# Altium footprint library PcbLibPadometer.PcbLib: 18 footprints (part 1 of 2)
Each footprint in its own frame and in the unit in brackets; x right, y up, seen from the top. Pads: shape width x height; smd on the part's side, far side on the other; paste and mask are expansions set on the pad; w line width, h text height; cw(c..) or ccw(c..) is an arc to the next point about the centre after c.
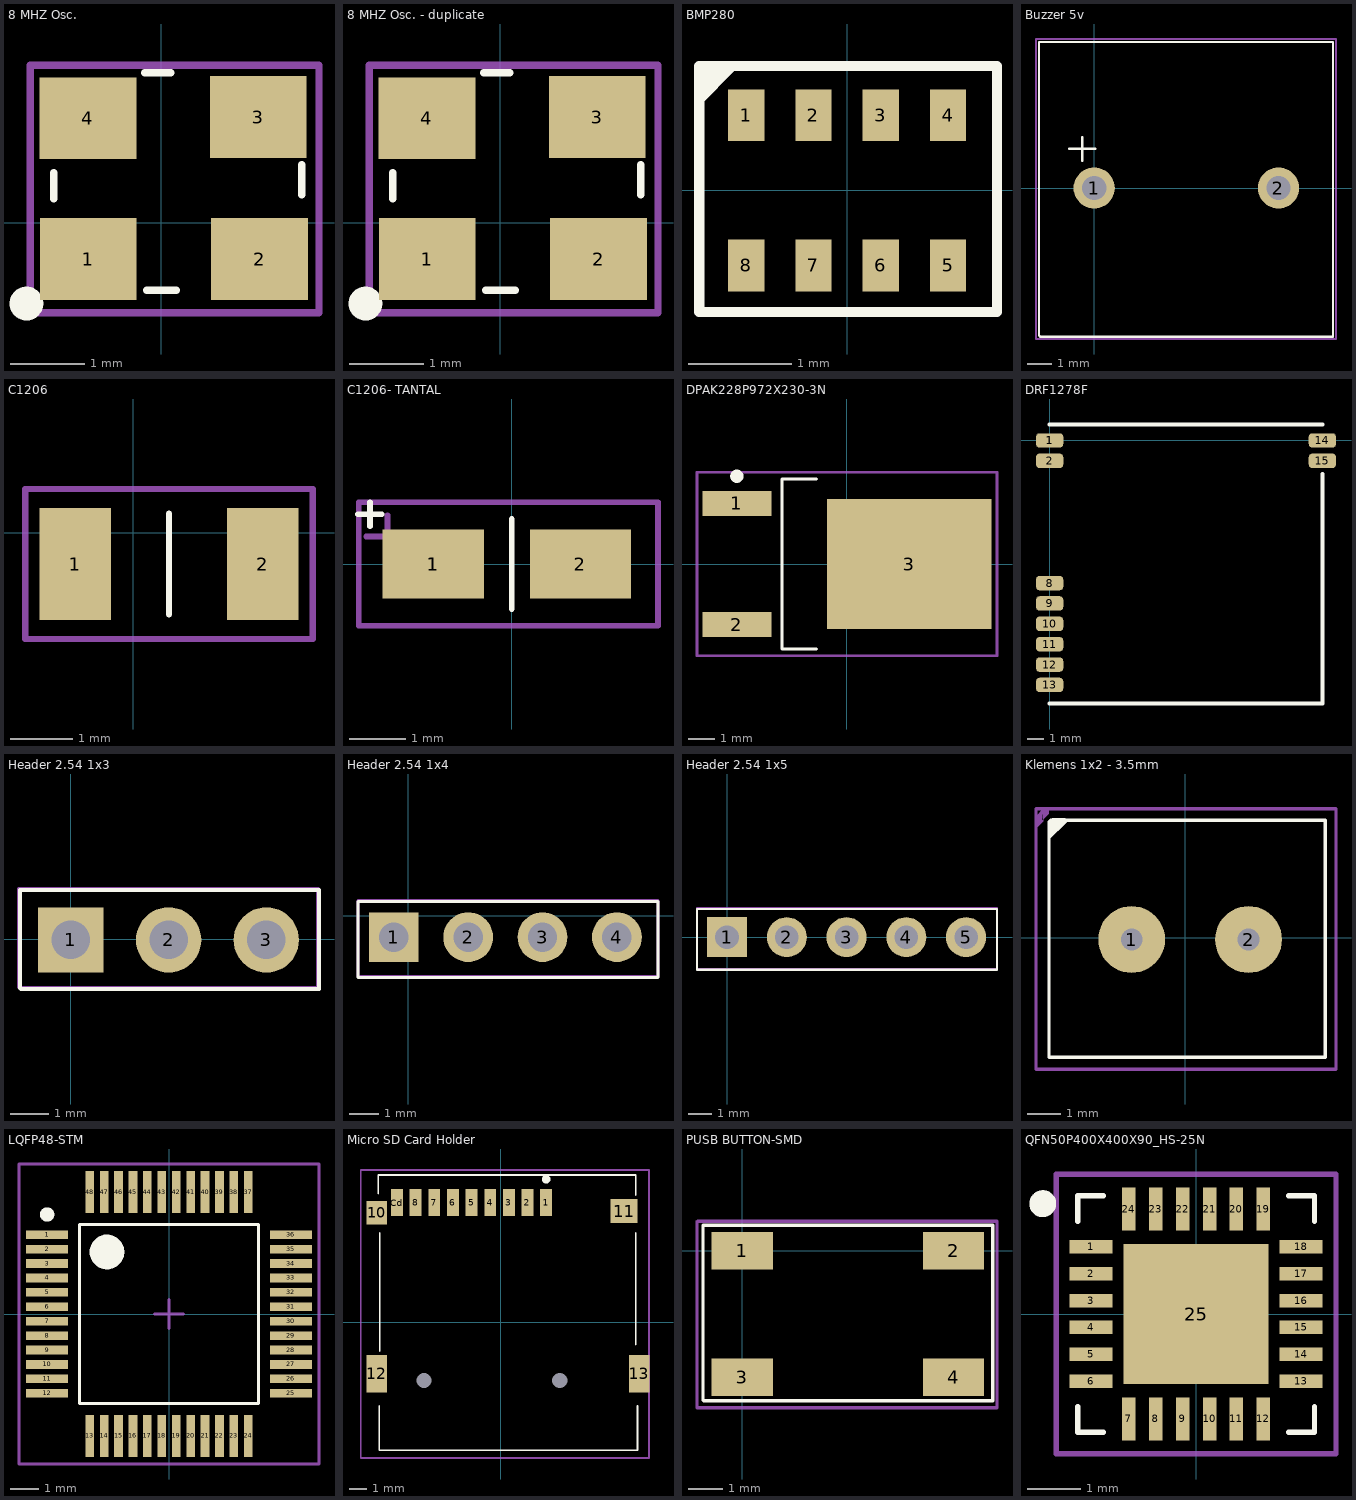
[diagram p0: the footprints below, top view; thin cyan lines are the x and y axes]

## 8 MHZ Osc. [mm]
pads (4):
  rect 1.3x1.1 smd mask+0.05: 1(-0.981,-0.49) 2(1.319,-0.49) 3(1.303,1.417) 4(-0.986,1.401)
Top Overlay:
  circle w0.254: c-1.812,-1.089 r0.1
  lines w0.1: -1.445,0.318 -1.445,0.672 ; -0.224,2.01 0.13,2.01 ; -0.199,-0.911 0.201,-0.911 ; 1.884,0.376 1.884,0.776
Mechanical 3:
  circle w0.254: c-1.216,-0.524 r0.1
  lines w0.1: -1.761,-1.211 -1.761,2.113 2.118,2.113 2.118,-1.211 -1.761,-1.211
3D body "ASE3.STEP": height 1.22, standoff -0.03, extent -1.379,-0.641 1.821,1.859

## 8 MHZ Osc. - duplicate [mm]
pads (4):
  rect 1.3x1.1 smd mask+0.05: 1(-0.981,-0.49) 2(1.319,-0.49) 3(1.303,1.417) 4(-0.986,1.401)
Top Overlay:
  circle w0.254: c-1.812,-1.089 r0.1
  lines w0.1: -1.445,0.318 -1.445,0.672 ; -0.224,2.01 0.13,2.01 ; -0.199,-0.911 0.201,-0.911 ; 1.884,0.376 1.884,0.776
Mechanical 3:
  circle w0.254: c-1.216,-0.524 r0.1
  lines w0.1: -1.761,-1.211 -1.761,2.113 2.118,2.113 2.118,-1.211 -1.761,-1.211
3D body "ASE3.STEP": height 1.22, standoff -0.03, extent -1.379,-0.641 1.821,1.859

## BMP280 [mm]
pads (8):
  rect 0.35x0.5 smd mask+0.05: 1(-0.975,0.725) 2(-0.325,0.725) 3(0.325,0.725) 4(0.975,0.725) 5(0.975,-0.725) 6(0.325,-0.725) 7(-0.325,-0.725) 8(-0.975,-0.725)
Top Overlay:
  region: -1.045,1.201 -1.451,0.796 -1.451,1.18 -1.429,1.201
  lines w0.1: -1.429,-1.175 -1.429,1.201 1.448,1.201 1.448,-1.175 -1.429,-1.175
3D body "User Library-BMP280.step": height 0.95, standoff -0.01, extent -1.243,-1 1.257,1

## Buzzer 5v [mm]
pads (2):
  round 1.7 hole 1 mask+0.05: 1(0,0) 2(7.6,0)
Top Overlay:
  lines w0.1: -1.025,1.625 0.05,1.625 ; -0.5,1.125 -0.5,2.1 ; -2.275,-6.075 -2.275,6.025 9.85,6.025 9.85,-6.125 -2.225,-6.125 -2.275,-6.075
Mechanical 3:
  lines w0.1: -2.4,-6.225 -2.4,6.15 9.975,6.15 9.975,-6.225 -2.4,-6.225
3D body "cem-1205c.stp": height 9.5, standoff -4.5, extent -2.2,-6.05 9.8,5.95

## C1206 [mm]
pads (2):
  rect 1.15x1.8 smd mask+0.05: 1(-0.925,-0.5) 2(2.075,-0.5)
Top Overlay:
  lines w0.1: 0.575,-1.305 0.575,0.305
Mechanical 3:
  lines w0.1: -1.725,-1.7 2.875,-1.7 2.875,0.7 -1.725,0.7 -1.725,-1.7
3D body "1206CAP.step": height 1, standoff 0, extent -1.025,-1.3 2.175,0.3

## C1206- TANTAL [mm]
pads (3):
  rect 1.8x1.23 smd mask+0.05: 1(-1.4,0) 1(-1.4,0) 2(1.22,0)
Top Overlay:
  lines w0.1: -2.738,0.888 -2.313,0.888 ; -2.525,0.675 -2.525,1.1 ; 0,-0.8 0,0.8
Mechanical 3:
  lines w0.1: -2.594,0.489 -1.832,0.489 ; -2.213,0.108 -2.213,0.87 ; -2.725,-1.1 -2.725,1.1 2.6,1.1 2.6,-1.1 -2.725,-1.1
3D body "User Library-CaseA_3216-18.step": height 1.62, standoff 0.02, extent -1.7,-0.8 1.5,0.8

## DPAK228P972X230-3N [mm] "D-PAK, 3-Pads, Body 6,40x6,56mm (max), IPC Medium Density"
height 2.3
pads (3):
  rect 2.6x0.95 smd mask+0.05: 1(-4.15,2.28) 2(-4.15,-2.28)
  rect 6.2x4.9 smd mask+0.05: 3(2.35,0)
Top Overlay:
  circle w0.25: c-4.15,3.305 r0.125
  lines w0.1: -1.15,-3.2 -2.45,-3.2 -2.45,3.2 -1.15,3.2
Mechanical 3:
  lines w0.1: -0.5,0 0.5,0 ; 0,-0.5 0,0.5 ; -5.65,-3.45 5.65,-3.45 5.65,3.45 -5.65,3.45 -5.65,-3.45
3D body: height 2.3, standoff 1, extent -2.5,-3.2 4.1,3.2

## DRF1278F [mm]
pads (11):
  rrect50% 1.7x0.9 smd: 1(0,0) 1(0,0) 2(0,-1.27) 8(0,-8.89) 9(0,-10.16) 10(0,-11.43) 11(0,-12.7) 12(0,-13.97) 13(0,-15.24) 14(17,0) 15(17,-1.27)
Top Overlay:
  lines w0.254: 0,-16.4 17,-16.4 17,-2.1 ; 0,1 17,1

## Header 2.54 1x3 [mm]
pads (3):
  rect 1.7x1.7 hole 1 mask+0.05: 1(0,-0.025)
  round 1.7 hole 1 mask+0.05: 2(2.54,-0.025) 3(5.08,-0.025)
Top Overlay:
  lines w0.1: -1.325,-1.275 -1.325,1.275 6.45,1.275 6.45,-1.3 -1.3,-1.3 -1.325,-1.275
Mechanical 3:
  lines w0.1: -1.35,-1.25 -1.325,-1.275 6.425,-1.275 6.425,1.3 -1.35,1.3 -1.35,-1.25
3D body "User Library-ZL262-3SG.step": height 9.1, standoff -2.45, extent -1.26,-1.275 6.36,1.225

## Header 2.54 1x4 [mm]
pads (4):
  rect 1.7x1.7 hole 1 mask+0.05: 1(-0.5,-0.725)
  round 1.7 hole 1 mask+0.05: 2(2.04,-0.725) 3(4.58,-0.725) 4(7.12,-0.725)
Top Overlay:
  lines w0.1: -1.725,-2.1 8.525,-2.1 8.525,0.5 -1.725,0.5 -1.725,-2.1
Mechanical 3:
  lines w0.1: -1.725,-2.075 -1.725,0.525 8.525,0.525 8.525,-2.075 -1.725,-2.075
3D body "User Library-ZL262-4SG.step": height 9.1, standoff -2.45, extent -1.68,-2.05 8.48,0.45

## Header 2.54 1x5 [mm]
pads (5):
  rect 1.7x1.7 hole 1 mask+0.05: 1(0,0)
  round 1.7 hole 1 mask+0.05: 2(2.54,0) 3(5.08,0) 4(7.62,0) 5(10.16,0)
Top Overlay:
  lines w0.1: -1.275,-1.375 -1.275,1.2 11.475,1.2 11.475,-1.375 -1.275,-1.375
Mechanical 3:
  lines w0.1: -1.275,-1.35 -1.275,1.225 11.475,1.225 11.475,-1.35 -1.275,-1.35
3D body "User Library-ZL262-5SG (1).step": height 9.1, standoff -2.45, extent -1.25,-1.3 11.45,1.2

## Klemens 1x2 - 3.5mm [mm]
pads (2):
  round 2 hole 0.65: 1(-1.6,-0.05) 2(1.9,-0.05)
Top Overlay:
  region: -3.533,3.482 -4.106,2.909 -4.106,3.444 -3.972,3.577 -3.593,3.577
  lines w0.1: -4.075,3.475 -4.075,-3.575 4.2,-3.575 4.2,3.525 -4.025,3.525
Mechanical 3:
  region: -4.248,3.86 -4.464,3.644 -4.464,3.861 -4.462,3.86 -4.248,3.86 -4.248,3.496 -4.462,3.282 -4.462,3.86 -4.248,3.86 -4.241,3.853 -4.082,3.853 -4.082,3.709 -4.285,3.507
  lines w0.1: -4.462,-3.922 -4.462,3.86 -4.248,3.86 4.517,3.86 4.517,-3.931 -4.453,-3.931 -4.462,-3.922
3D body "terminal_blocks_a-tb350-te02.stp": height 8.9, standoff -3.29, extent -3.9,-3.45 4.094,3.55

## LQFP48-STM [mm] "TSQFP, 48-Leads, Body 7,00x7,00mm, Pitch 0,50mm, IPC Medium Density"
height 1.6
pads (48):
  rect 1.45x0.3 smd mask+0.05: 1(-4.225,2.75) 2(-4.225,2.25) 3(-4.225,1.75) 4(-4.225,1.25) 5(-4.225,0.75) 6(-4.225,0.25) 7(-4.225,-0.25) 8(-4.225,-0.75) 9(-4.225,-1.25) 10(-4.225,-1.75) 11(-4.225,-2.25) 12(-4.225,-2.75) 25(4.225,-2.75) 26(4.225,-2.25) 27(4.225,-1.75) 28(4.225,-1.25) 29(4.225,-0.75) 30(4.225,-0.25) 31(4.225,0.25) 32(4.225,0.75) 33(4.225,1.25) 34(4.225,1.75) 35(4.225,2.25) 36(4.225,2.75)
  rect 0.3x1.45 smd mask+0.05: 13(-2.75,-4.225) 14(-2.25,-4.225) 15(-1.75,-4.225) 16(-1.25,-4.225) 17(-0.75,-4.225) 18(-0.25,-4.225) 19(0.25,-4.225) 20(0.75,-4.225) 21(1.25,-4.225) 22(1.75,-4.225) 23(2.25,-4.225) 24(2.75,-4.225) 37(2.75,4.225) 38(2.25,4.225) 39(1.75,4.225) 40(1.25,4.225) 41(0.75,4.225) 42(0.25,4.225) 43(-0.25,4.225) 44(-0.75,4.225) 45(-1.25,4.225) 46(-1.75,4.225) 47(-2.25,4.225) 48(-2.75,4.225)
Top Overlay:
  circle w0.25: c-4.225,3.45 r0.125
  circle w0.6: c-2.15,2.15 r0.3
  lines w0.1: -3.1,-3.1 -3.1,3.1 3.1,3.1 3.1,-3.1 -3.1,-3.1
Mechanical 3:
  lines w0.1: -0.5,0 0.5,0 ; 0,-0.5 0,0.5 ; -5.2,-5.2 -5.2,5.2 5.2,5.2 5.2,-5.2 -5.2,-5.2
3D body "LQFP48-STM.step": height 1.6, standoff 0, extent -4.5,-4.5 4.5,4.5

## Micro SD Card Holder [mm]
pads (15):
  rect 0.7x1.6 smd paste+0 mask+0: 1(2.684,7.075) 2(1.584,7.075) 3(0.484,7.075) 4(-0.616,7.075) 5(-1.716,7.075) 6(-2.816,7.075) 7(-3.916,7.075) 8(-5.016,7.075) Cd(-6.116,7.075)
  rect 1.2x1.4 smd paste+0 mask+0: 10(-7.316,6.475)
  rect 1.6x1.4 smd paste+0 mask+0: 11(7.284,6.575)
  rect 1.2x2.2 smd paste+0 mask+0: 12(-7.316,-3.025) 13(8.184,-3.025)
  round 0 hole 0.9 unplated paste-1000 mask+0: ""(-4.516,-3.425) ""(3.484,-3.425)
Top Overlay:
  circle w0.25: c2.684,8.45 r0.125
  lines w0.1: -7.225,7.6 -7.225,8.7 7.975,8.7 7.975,7.5 ; -7.157,-4.925 -7.157,-7.548 8.075,-7.548 8.075,-4.925 ; -7.125,-1.7 -7.125,5.3 ; 7.975,-1.3 7.975,5.3
Mechanical 3:
  lines w0.1: -8.25,-8 8.75,-8 8.75,9 8.5,9 -7.75,9 -8.25,9 -8.25,-8
3D body "User Library-MEM2055-00-190-01-A_revG.step": height 1.85, standoff -0.6, extent -7.567,-7.42 8.433,7.83

## PUSB BUTTON-SMD [mm]
pads (4):
  rect 1.8x1.1 smd mask+0.05: 1(0,0) 2(6.2,0) 3(0,-3.7) 4(6.2,-3.7)
Top Overlay:
  lines w0.1: -1.15,-4.375 -1.15,0.75 7.35,0.75 7.35,-4.4 -1.125,-4.4
Mechanical 3:
  lines w0.1: -1.325,-4.6 7.475,-4.6 7.475,0.875 -1.3,0.875 -1.325,0.85 -1.325,-4.6
3D body "User Library-4x4_SMD_Switch.step": height 1.5, standoff 0, extent -0.2,-4.5 6.2,0.7

## QFN50P400X400X90_HS-25N [mm] "QFN, 24-Leads, Body 4,00x4,00mm, Pitch 0,50mm, Thermal Pad 2,70x2,60mm, IPC Medium Density"
height 0.9
pads (25):
  rect 0.8x0.25 smd mask+0.05: 1(-1.95,1.25) 2(-1.95,0.75) 3(-1.95,0.25) 4(-1.95,-0.25) 5(-1.95,-0.75) 6(-1.95,-1.25) 13(1.95,-1.25) 14(1.95,-0.75) 15(1.95,-0.25) 16(1.95,0.25) 17(1.95,0.75) 18(1.95,1.25)
  rect 0.25x0.8 smd mask+0.05: 7(-1.25,-1.95) 8(-0.75,-1.95) 9(-0.25,-1.95) 10(0.25,-1.95) 11(0.75,-1.95) 12(1.25,-1.95) 19(1.25,1.95) 20(0.75,1.95) 21(0.25,1.95) 22(-0.25,1.95) 23(-0.75,1.95) 24(-1.25,1.95)
  rect 2.7x2.6 smd mask+0.05: 25(0,0)
Top Overlay:
  circle w0.25: c-2.85,2.05 r0.125
  lines w0.1: -2.2,-1.725 -2.2,-2.2 -1.725,-2.2 ; -2.2,1.725 -2.2,2.2 -1.725,2.2 ; 1.725,-2.2 2.2,-2.2 2.2,-1.725 ; 1.725,2.2 2.2,2.2 2.2,1.725
Mechanical 3:
  lines w0.1: -0.5,0 0.5,0 ; 0,-0.5 0,0.5 ; -2.6,-2.6 2.6,-2.6 2.6,2.6 -2.6,2.6 -2.6,-2.6
3D body "QFN50P400X400X90_HS-25N.step": height 0.9, standoff 0, extent -2.07,-2.07 2.07,2.07